# Altium integrated library ISSI SRAM Synchronous SRAM No-Wait(ZBT).IntLib: 1246 symbols (part 135 of 152)
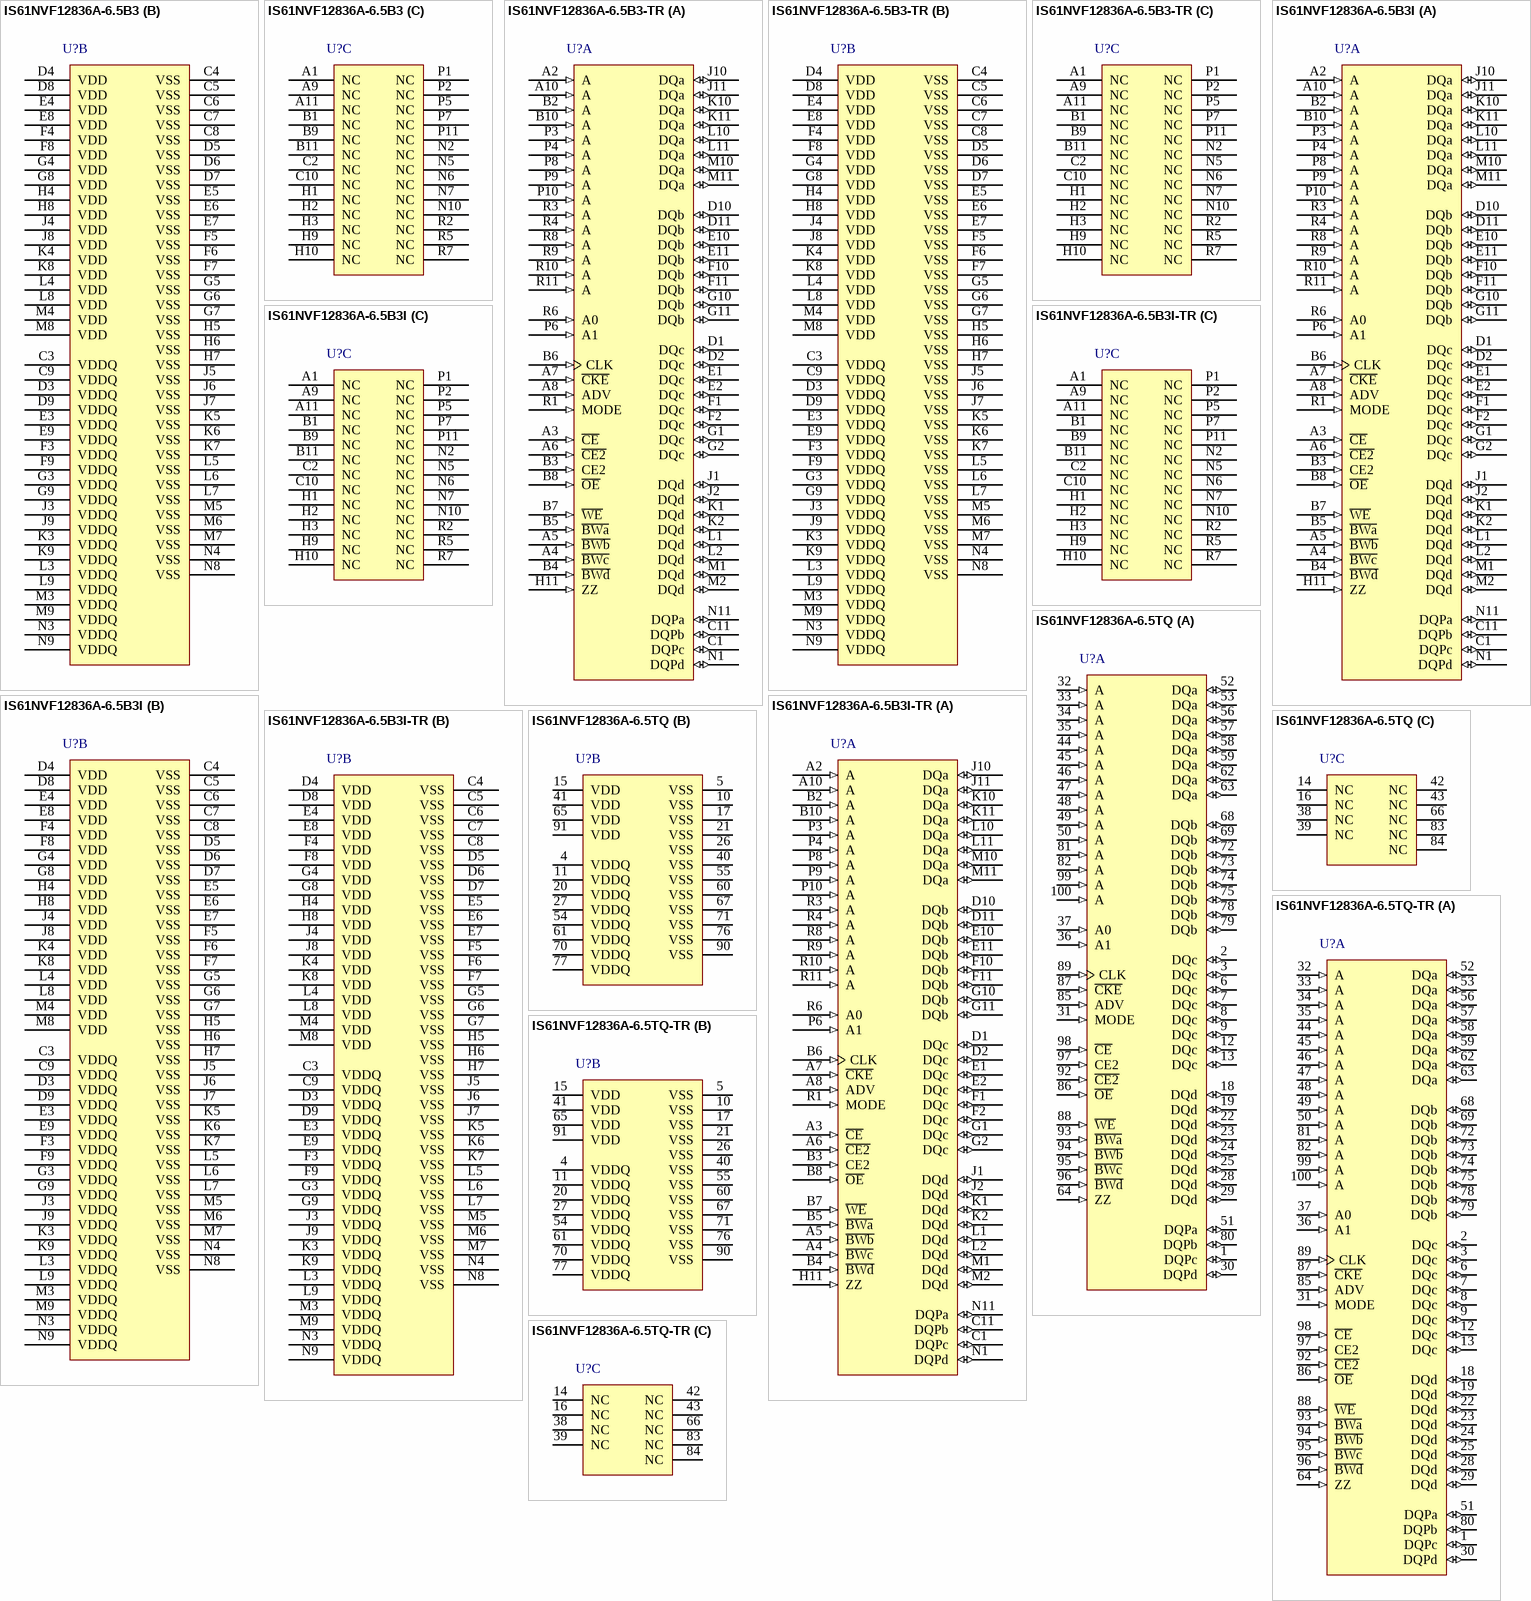
[diagram p406: symbols IS61NVF12836A-6.5B3 to IS61NVF12836A-6.5TQ-TR]

## IS61NVF12836A-6.5B3-TR
designator U?
4 M Flow Through 'No Wait' State Bus SRAM, 128 K x 36, 0 to 70 degC, 165-Pin BGA (TF-BGA-165); Manufacturer: Integrated Silicon Solution Inc (ISSI); PartNumber: IS61NVF12836A-6.5B3-TR; Density: 4M; Packing: Tape & Reel; Vcc: 2.5 V; DatasheetVersion: Rev. D; PackageVersion: Rev. B, 08/2008; PackageReference: TF-BGA-165; PackageDescription: 165-Pin 13 x 15 mm TF-BGA, Pitch 1 mm; Organization: 128Kx36; VccQ: 2.5 V; Mounting Technology: Surface Mount; ComponentLink1Description: Manufacturer URL; ComponentLink1URL: http://www.issi.com/US/index.shtml; ComponentLink2Description: Datasheet; ComponentLink2URL: http://www.issi.com/WW/pdf/61NLF_NVF12836A_25618A.pdf; ComponentLink3Description: Package Specification; ComponentLink3URL: http://www.issi.com/WW/pdf/61NLP_NVP25636A_51218A.pdf
footprint ISSI-TF-BGA-165-13000X15000DE (BGA, 165-Balls, Body 15x13mm, Pitch 1mm)
part A pins: A2 A (in) "Address Input", A3 ~{CE} (in) "Synchronous Chip Enable", A4 ~{BWc} (in) "Synchronous Byte Write Input", A5 ~{BWb} (in) "Synchronous Byte Write Input", A6 ~{CE2} (in) "Synchronous Chip Enable", A7 ~{CKE} (in) "Clock Enable", A8 ADV (in) "Synchronous Advance/Load", A10 A (in) "Address Input", B2 A (in) "Address Input", B3 CE2 (in) "Synchronous Chip Enable", B4 ~{BWd} (in) "Synchronous Byte Write Input", B5 ~{BWa} (in) "Synchronous Byte Write Input", B6 CLK (in) "Synchronous Clock", B7 ~{WE} (in) "Synchronous Read/Write Control Input", B8 ~{OE} (in) "Output Enable", B10 A (in) "Address Input", C1 DQPc (io) "Parity Data I/O", C11 DQPb (io) "Parity Data I/O", D1 DQc (io) "Data Input/Output", D2 DQc (io) "Data Input/Output", D10 DQb (io) "Data Input/Output", D11 DQb (io) "Data Input/Output", E1 DQc (io) "Data Input/Output", E2 DQc (io) "Data Input/Output", E10 DQb (io) "Data Input/Output", E11 DQb (io) "Data Input/Output", F1 DQc (io) "Data Input/Output", F2 DQc (io) "Data Input/Output", F10 DQb (io) "Data Input/Output", F11 DQb (io) "Data Input/Output", G1 DQc (io) "Data Input/Output", G2 DQc (io) "Data Input/Output", G10 DQb (io) "Data Input/Output", G11 DQb (io) "Data Input/Output", H11 ZZ (in) "Power Sleep Mode", J1 DQd (io) "Data Input/Output", J2 DQd (io) "Data Input/Output", J10 DQa (io) "Data Input/Output", J11 DQa (io) "Data Input/Output", K1 DQd (io) "Data Input/Output", K2 DQd (io) "Data Input/Output", K10 DQa (io) "Data Input/Output", K11 DQa (io) "Data Input/Output", L1 DQd (io) "Data Input/Output", L2 DQd (io) "Data Input/Output", L10 DQa (io) "Data Input/Output", L11 DQa (io) "Data Input/Output", M1 DQd (io) "Data Input/Output", M2 DQd (io) "Data Input/Output", M10 DQa (io) "Data Input/Output", M11 DQa (io) "Data Input/Output", N1 DQPd (io) "Parity Data I/O", N11 DQPa (io) "Parity Data I/O", P3 A (in) "Address Input", P4 A (in) "Address Input", P6 A1 (in) "Synchronous Burst Address Input", P8 A (in) "Address Input", P9 A (in) "Address Input", P10 A (in) "Address Input", R1 MODE (in) "Burst Sequence Selection", R3 A (in) "Address Input", R4 A (in) "Address Input", R6 A0 (in) "Synchronous Burst Address Input", R8 A (in) "Address Input", R9 A (in) "Address Input", R10 A (in) "Address Input", R11 A (in) "Address Input"
part B pins: C3 VDDQ (power) "Isolated output Power Supply 3.3V/2.5V", C4 VSS (power) "Ground", C5 VSS (power) "Ground", C6 VSS (power) "Ground", C7 VSS (power) "Ground", C8 VSS (power) "Ground", C9 VDDQ (power) "Isolated output Power Supply 3.3V/2.5V", D3 VDDQ (power) "Isolated output Power Supply 3.3V/2.5V", D4 VDD (power) "Power Supply", D5 VSS (power) "Ground", D6 VSS (power) "Ground", D7 VSS (power) "Ground", D8 VDD (power) "3.3V/2.5V Power Supply", D9 VDDQ (power) "Isolated output Power Supply 3.3V/2.5V", E3 VDDQ (power) "Isolated output Power Supply 3.3V/2.5V", E4 VDD (power) "3.3V/2.5V Power Supply", E5 VSS (power) "Ground", E6 VSS (power) "Ground", E7 VSS (power) "Ground", E8 VDD (power) "3.3V/2.5V Power Supply", E9 VDDQ (power) "Isolated output Power Supply 3.3V/2.5V", F3 VDDQ (power) "Isolated output Power Supply 3.3V/2.5V", F4 VDD (power) "3.3V/2.5V Power Supply", F5 VSS (power) "Ground", F6 VSS (power) "Ground", F7 VSS (power) "Ground", F8 VDD (power) "3.3V/2.5V Power Supply", F9 VDDQ (power) "Isolated output Power Supply 3.3V/2.5V", G3 VDDQ (power) "Isolated output Power Supply 3.3V/2.5V", G4 VDD (power) "3.3V/2.5V Power Supply", G5 VSS (power) "Ground", G6 VSS (power) "Ground", G7 VSS (power) "Ground", G8 VDD (power) "3.3V/2.5V Power Supply", G9 VDDQ (power) "Isolated output Power Supply 3.3V/2.5V", H4 VDD (power) "3.3V/2.5V Power Supply", H5 VSS (power) "Ground", H6 VSS (power) "Ground", H7 VSS (power) "Ground", H8 VDD (power) "3.3V/2.5V Power Supply", J3 VDDQ (power) "Isolated output Power Supply 3.3V/2.5V", J4 VDD (power) "3.3V/2.5V Power Supply", J5 VSS (power) "Ground", J6 VSS (power) "Ground", J7 VSS (power) "Ground", J8 VDD (power) "3.3V/2.5V Power Supply", J9 VDDQ (power) "Isolated output Power Supply 3.3V/2.5V", K3 VDDQ (power) "Isolated output Power Supply 3.3V/2.5V", K4 VDD (power) "3.3V/2.5V Power Supply", K5 VSS (power) "Ground", K6 VSS (power) "Ground", K7 VSS (power) "Ground", K8 VDD (power) "3.3V/2.5V Power Supply", K9 VDDQ (power) "Isolated output Power Supply 3.3V/2.5V", L3 VDDQ (power) "Isolated output Power Supply 3.3V/2.5V", L4 VDD (power) "3.3V/2.5V Power Supply", L5 VSS (power) "Ground", L6 VSS (power) "Ground", L7 VSS (power) "Ground", L8 VDD (power) "3.3V/2.5V Power Supply", L9 VDDQ (power) "Isolated output Power Supply 3.3V/2.5V", M3 VDDQ (power) "Isolated output Power Supply 3.3V/2.5V", M4 VDD (power) "3.3V/2.5V Power Supply", M5 VSS (power) "Ground", M6 VSS (power) "Ground", M7 VSS (power) "Ground", M8 VDD (power) "3.3V/2.5V Power Supply", M9 VDDQ (power) "Isolated output Power Supply 3.3V/2.5V", N3 VDDQ (power) "Isolated output Power Supply 3.3V/2.5V", N4 VSS (power) "Ground", N8 VSS (power) "Ground", N9 VDDQ (power) "Isolated output Power Supply 3.3V/2.5V"
part C pins: A1 NC "No Connect", A9 NC "No Connect", A11 NC "No Connect", B1 NC "No Connect", B9 NC "No Connect", B11 NC "No Connect", C2 NC "No Connect", C10 NC "No Connect", H1 NC "No Connect", H2 NC "No Connect", H3 NC "No Connect", H9 NC "No Connect", H10 NC "No Connect", N2 NC "No Connect", N5 NC "No Connect", N6 NC "No Connect", N7 NC "No Connect", N10 NC "No Connect", P1 NC "No Connect", P2 NC "No Connect", P5 NC "No Connect", P7 NC "No Connect", P11 NC "No Connect", R2 NC "No Connect", R5 NC "No Connect", R7 NC "No Connect"